# Altium schematic symbol library TERMINAL_CONNECOR_2.SchLib: 1 symbol
Pins are listed as number, name and electrical type; pins without a type are passive.

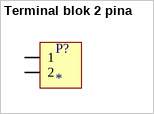
[diagram p0: symbol Terminal blok 2 pina]

## Terminal blok 2 pina
designator P?
Terminal blok 2
footprint TERMINAL BLOK 2 (Terminal blok 2 pina)
pins: 1, 2